# Altium integrated library TI_Logic_Specialty_Logic.IntLib: 2504 symbols (part 18 of 81)
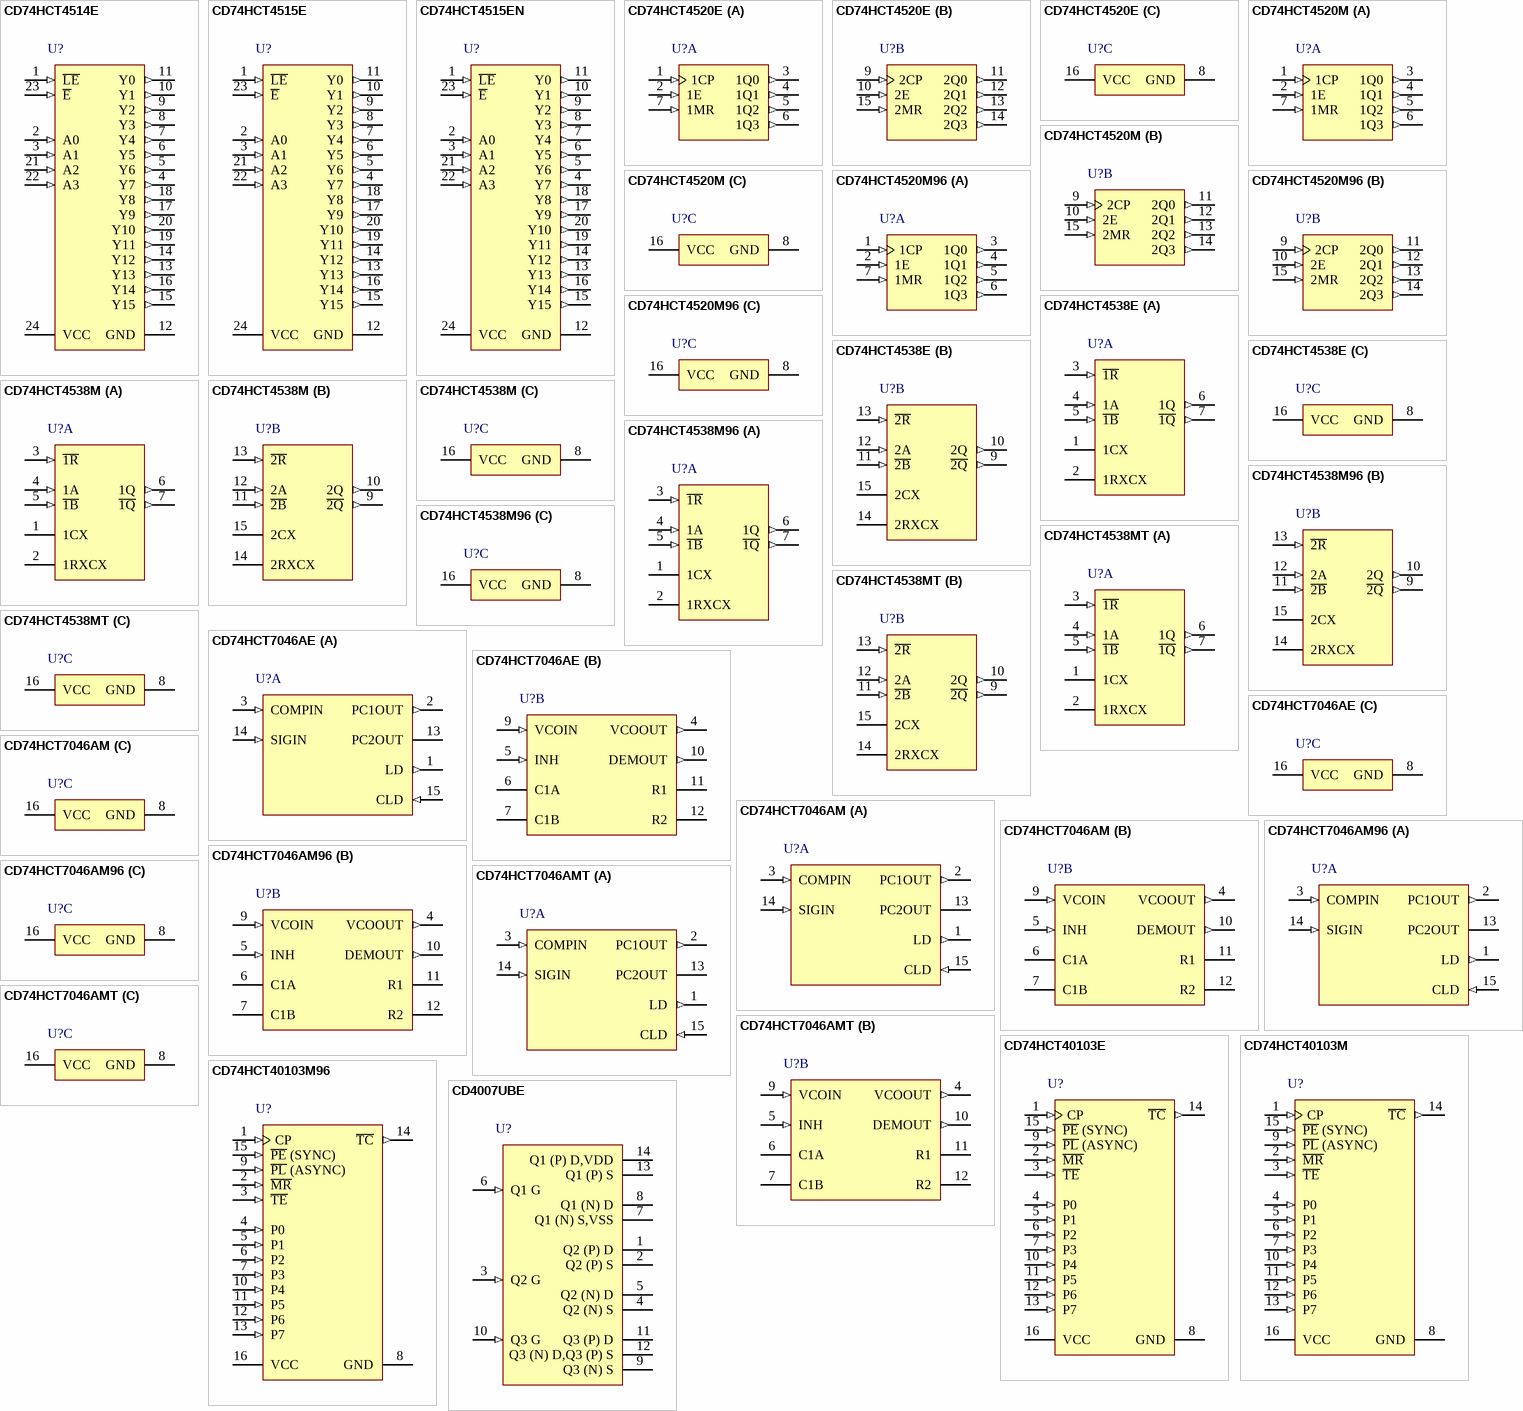
[diagram p121: symbols CD74HCT4514E to CD4007UBE]

## CD74HCT4538M96
designator U?
High Speed CMOS Logic Dual Retriggerable Precision Monostable Multivibrators, D0016A, LARGE T&R; Generic Part Number: CD74HCT4538; Manufacturer: Texas Instruments; PartNumber: CD74HCT4538M96; VCC(Min)(V): 4.5; VCC(Max)(V): 5.5; ICC @ Nom Voltage(Max)(mA): 0.08; Input Type: TTL; Bits(#): 2; F @ Nom Voltage(Max)(Mhz): 25; Rating: Catalog; Technology Family: HCT; Voltage(Nom)(V): 5; Schmitt Trigger: No; Output Drive (IOL/IOH)(Max)(mA): 4/-4; tpd @ Nom Voltage(Max)(ns): 69; DatasheetVersion: SCHS123E; PackageReference: D0016A; Supplier 1: Mouser; Supplier Part Number 1: 595-CD74HCT4538M96; Supplier 2: Digi-Key; Supplier Part Number 2: 296-31617-2-ND; Supplier 3: Digi-Key; Supplier Part Number 3: 296-31617-1-ND; Supplier 4: Digi-Key; Supplier Part Number 4: 296-31617-6-ND; Output Type: CMOS; Operating Temperature Range(C): -55 to 125; Code_JEDEC: MS-012 variation AC; ComponentLink1Description: Manufacturer URL; ComponentLink1URL: http://www.ti.com/; ComponentLink2Description: Datasheet; ComponentLink2URL: http://www.ti.com/lit/ds/symlink/cd74hct4538.pdf; ComponentLink3Description: Package Specification; ComponentLink3URL: http://www.ti.com/lit/ml/mpds178g/mpds178g.pdf
footprint D0016A_N (SOIC, 16-Leads, Body 10x4mm, Pitch 1.27mm, IPC Medium Density)
footprint D0016A_M (SOIC, 16-Leads, Body 10x4mm, Pitch 1.27mm, IPC Low Density)
footprint D0016A_L (SOIC, 16-Leads, Body 10x4mm, Pitch 1.27mm, IPC High Density)
part A pins: 1 1CX, 2 1RXCX, 3 ~{1R} (in), 4 1A (in), 5 ~{1B} (in), 6 1Q (out), 7 ~{1Q} (out)
part B pins: 9 ~{2Q} (out), 10 2Q (out), 11 ~{2B} (in), 12 2A (in), 13 ~{2R} (in), 14 2RXCX, 15 2CX
part C pins: 8 GND (power), 16 VCC (power)

## CD74HCT4538MT
designator U?
High Speed CMOS Logic Dual Retriggerable Precision Monostable Multivibrators, D0016A, SMALL T&R; Generic Part Number: CD74HCT4538; Manufacturer: Texas Instruments; PartNumber: CD74HCT4538MT; VCC(Min)(V): 4.5; VCC(Max)(V): 5.5; ICC @ Nom Voltage(Max)(mA): 0.08; Input Type: TTL; Bits(#): 2; F @ Nom Voltage(Max)(Mhz): 25; Rating: Catalog; Technology Family: HCT; Voltage(Nom)(V): 5; Schmitt Trigger: No; Output Drive (IOL/IOH)(Max)(mA): 4/-4; tpd @ Nom Voltage(Max)(ns): 69; DatasheetVersion: SCHS123E; PackageReference: D0016A; Supplier 1: Mouser; Supplier Part Number 1: 595-CD74HCT4538MT; Supplier 2: Digi-Key; Supplier Part Number 2: 296-32083-2-ND; Supplier 3: Digi-Key; Supplier Part Number 3: 296-32083-1-ND; Supplier 4: Digi-Key; Supplier Part Number 4: 296-32083-6-ND; Output Type: CMOS; Operating Temperature Range(C): -55 to 125; Code_JEDEC: MS-012 variation AC; ComponentLink1Description: Manufacturer URL; ComponentLink1URL: http://www.ti.com/; ComponentLink2Description: Datasheet; ComponentLink2URL: http://www.ti.com/lit/ds/symlink/cd74hct4538.pdf; ComponentLink3Description: Package Specification; ComponentLink3URL: http://www.ti.com/lit/ml/mpds178g/mpds178g.pdf
footprint D0016A_N (SOIC, 16-Leads, Body 10x4mm, Pitch 1.27mm, IPC Medium Density)
footprint D0016A_M (SOIC, 16-Leads, Body 10x4mm, Pitch 1.27mm, IPC Low Density)
footprint D0016A_L (SOIC, 16-Leads, Body 10x4mm, Pitch 1.27mm, IPC High Density)
part A pins: 1 1CX, 2 1RXCX, 3 ~{1R} (in), 4 1A (in), 5 ~{1B} (in), 6 1Q (out), 7 ~{1Q} (out)
part B pins: 9 ~{2Q} (out), 10 2Q (out), 11 ~{2B} (in), 12 2A (in), 13 ~{2R} (in), 14 2RXCX, 15 2CX
part C pins: 8 GND (power), 16 VCC (power)

## CD74HCT7046AE
designator U?
High Speed CMOS Logic Phase-Locked Loop with VCO and Lock Detector, N0016A, TUBE; Generic Part Number: CD74HCT7046A; Manufacturer: Texas Instruments; PartNumber: CD74HCT7046AE; VCC(Min)(V): 4.5; VCC(Max)(V): 5.5; ICC @ Nom Voltage(Max)(mA): 0.08; Input Type: TTL; Bits(#): 1; F @ Nom Voltage(Max)(Mhz): 25; Rating: Catalog; Technology Family: HCT; Voltage(Nom)(V): 5; Schmitt Trigger: No; Output Drive (IOL/IOH)(Max)(mA): 4/-4; tpd @ Nom Voltage(Max)(ns): 56; DatasheetVersion: SCHS218C; PackageReference: N0016A; Supplier 1: Mouser; Supplier Part Number 1: 595-CD74HCT7046AE; Supplier 2: Digi-Key; Supplier Part Number 2: 296-33165-5-ND; Output Type: CMOS; Operating Temperature Range(C): -55 to 125; ComponentLink1Description: Manufacturer URL; ComponentLink1URL: http://www.ti.com/; ComponentLink2Description: Datasheet; ComponentLink2URL: http://www.ti.com/lit/ds/symlink/cd74hct7046a.pdf
footprint N0016A (DIP, 16-Leads, Body 19.7x6.6mm, Pitch 2.54mm)
part A pins: 1 LD (out) "Lock Detector Output (Active High)", 2 PC1OUT (out) "Phase Comparator 1 Output", 3 COMPIN (in) "Comparator Input", 13 PC2OUT (hiz) "Phase Comparator 2 Output", 14 SIGIN (in) "Signal Input", 15 CLD (in) "Lock Detector Capacitor Input"
part B pins: 4 VCOOUT (out) "VCO Output", 5 INH (in) "Inhibit Input", 6 C1A "Capacitor C1 Connection A", 7 C1B "Capacitor C1 Connection B", 9 VCOIN (in) "VCO Input", 10 DEMOUT (out) "Demodulator Output", 11 R1 "Resistor R1 Connection", 12 R2 "Resistor R2 Connection"
part C pins: 8 GND (power) "Ground (0V)", 16 VCC (power) "Positive Supply Voltage"

## CD74HCT7046AM
designator U?
High Speed CMOS Logic Phase-Locked Loop with VCO and Lock Detector, D0016A, TUBE; Generic Part Number: CD74HCT7046A; Manufacturer: Texas Instruments; PartNumber: CD74HCT7046AM; VCC(Min)(V): 4.5; VCC(Max)(V): 5.5; ICC @ Nom Voltage(Max)(mA): 0.08; Input Type: TTL; Bits(#): 1; F @ Nom Voltage(Max)(Mhz): 25; Rating: Catalog; Technology Family: HCT; Voltage(Nom)(V): 5; Schmitt Trigger: No; Output Drive (IOL/IOH)(Max)(mA): 4/-4; tpd @ Nom Voltage(Max)(ns): 56; DatasheetVersion: SCHS218C; PackageReference: D0016A; Supplier 1: Mouser; Supplier Part Number 1: 595-CD74HCT7046AM; Supplier 2: Digi-Key; Supplier Part Number 2: 296-9296-5-ND; Output Type: CMOS; Operating Temperature Range(C): -55 to 125; ComponentLink1Description: Manufacturer URL; ComponentLink1URL: http://www.ti.com/; ComponentLink2Description: Datasheet; ComponentLink2URL: http://www.ti.com/lit/ds/symlink/cd74hct7046a.pdf
footprint D0016A_N (SOIC, 16-Leads, Body 10x4mm, Pitch 1.27mm, IPC Medium Density)
footprint D0016A_M (SOIC, 16-Leads, Body 10x4mm, Pitch 1.27mm, IPC Low Density)
footprint D0016A_L (SOIC, 16-Leads, Body 10x4mm, Pitch 1.27mm, IPC High Density)
part A pins: 1 LD (out) "Lock Detector Output (Active High)", 2 PC1OUT (out) "Phase Comparator 1 Output", 3 COMPIN (in) "Comparator Input", 13 PC2OUT (hiz) "Phase Comparator 2 Output", 14 SIGIN (in) "Signal Input", 15 CLD (in) "Lock Detector Capacitor Input"
part B pins: 4 VCOOUT (out) "VCO Output", 5 INH (in) "Inhibit Input", 6 C1A "Capacitor C1 Connection A", 7 C1B "Capacitor C1 Connection B", 9 VCOIN (in) "VCO Input", 10 DEMOUT (out) "Demodulator Output", 11 R1 "Resistor R1 Connection", 12 R2 "Resistor R2 Connection"
part C pins: 8 GND (power) "Ground (0V)", 16 VCC (power) "Positive Supply Voltage"

## CD74HCT7046AM96
designator U?
High Speed CMOS Logic Phase-Locked Loop with VCO and Lock Detector, D0016A, LARGE T&R; Generic Part Number: CD74HCT7046A; Manufacturer: Texas Instruments; PartNumber: CD74HCT7046AM96; VCC(Min)(V): 4.5; VCC(Max)(V): 5.5; ICC @ Nom Voltage(Max)(mA): 0.08; Input Type: TTL; Bits(#): 1; F @ Nom Voltage(Max)(Mhz): 25; Rating: Catalog; Technology Family: HCT; Voltage(Nom)(V): 5; Schmitt Trigger: No; Output Drive (IOL/IOH)(Max)(mA): 4/-4; tpd @ Nom Voltage(Max)(ns): 56; DatasheetVersion: SCHS218C; PackageReference: D0016A; Supplier 1: Mouser; Supplier Part Number 1: 595-CD74HCT7046AM96; Supplier 2: Digi-Key; Supplier Part Number 2: 296-31619-2-ND; Supplier 3: Digi-Key; Supplier Part Number 3: 296-31619-1-ND; Supplier 4: Digi-Key; Supplier Part Number 4: 296-31619-6-ND; Output Type: CMOS; Operating Temperature Range(C): -55 to 125; ComponentLink1Description: Manufacturer URL; ComponentLink1URL: http://www.ti.com/; ComponentLink2Description: Datasheet; ComponentLink2URL: http://www.ti.com/lit/ds/symlink/cd74hct7046a.pdf
footprint D0016A_N (SOIC, 16-Leads, Body 10x4mm, Pitch 1.27mm, IPC Medium Density)
footprint D0016A_M (SOIC, 16-Leads, Body 10x4mm, Pitch 1.27mm, IPC Low Density)
footprint D0016A_L (SOIC, 16-Leads, Body 10x4mm, Pitch 1.27mm, IPC High Density)
part A pins: 1 LD (out) "Lock Detector Output (Active High)", 2 PC1OUT (out) "Phase Comparator 1 Output", 3 COMPIN (in) "Comparator Input", 13 PC2OUT (hiz) "Phase Comparator 2 Output", 14 SIGIN (in) "Signal Input", 15 CLD (in) "Lock Detector Capacitor Input"
part B pins: 4 VCOOUT (out) "VCO Output", 5 INH (in) "Inhibit Input", 6 C1A "Capacitor C1 Connection A", 7 C1B "Capacitor C1 Connection B", 9 VCOIN (in) "VCO Input", 10 DEMOUT (out) "Demodulator Output", 11 R1 "Resistor R1 Connection", 12 R2 "Resistor R2 Connection"
part C pins: 8 GND (power) "Ground (0V)", 16 VCC (power) "Positive Supply Voltage"

## CD74HCT7046AMT
designator U?
High Speed CMOS Logic Phase-Locked Loop with VCO and Lock Detector, D0016A, SMALL T&R; Generic Part Number: CD74HCT7046A; Manufacturer: Texas Instruments; PartNumber: CD74HCT7046AMT; VCC(Min)(V): 4.5; VCC(Max)(V): 5.5; ICC @ Nom Voltage(Max)(mA): 0.08; Input Type: TTL; Bits(#): 1; F @ Nom Voltage(Max)(Mhz): 25; Rating: Catalog; Technology Family: HCT; Voltage(Nom)(V): 5; Schmitt Trigger: No; Output Drive (IOL/IOH)(Max)(mA): 4/-4; tpd @ Nom Voltage(Max)(ns): 56; DatasheetVersion: SCHS218C; PackageReference: D0016A; Supplier 1: Mouser; Supplier Part Number 1: 595-CD74HCT7046AMT; Supplier 2: Digi-Key; Supplier Part Number 2: CD74HCT7046AMT-ND; Output Type: CMOS; Operating Temperature Range(C): -55 to 125; ComponentLink1Description: Manufacturer URL; ComponentLink1URL: http://www.ti.com/; ComponentLink2Description: Datasheet; ComponentLink2URL: http://www.ti.com/lit/ds/symlink/cd74hct7046a.pdf
footprint D0016A_N (SOIC, 16-Leads, Body 10x4mm, Pitch 1.27mm, IPC Medium Density)
footprint D0016A_M (SOIC, 16-Leads, Body 10x4mm, Pitch 1.27mm, IPC Low Density)
footprint D0016A_L (SOIC, 16-Leads, Body 10x4mm, Pitch 1.27mm, IPC High Density)
part A pins: 1 LD (out) "Lock Detector Output (Active High)", 2 PC1OUT (out) "Phase Comparator 1 Output", 3 COMPIN (in) "Comparator Input", 13 PC2OUT (hiz) "Phase Comparator 2 Output", 14 SIGIN (in) "Signal Input", 15 CLD (in) "Lock Detector Capacitor Input"
part B pins: 4 VCOOUT (out) "VCO Output", 5 INH (in) "Inhibit Input", 6 C1A "Capacitor C1 Connection A", 7 C1B "Capacitor C1 Connection B", 9 VCOIN (in) "VCO Input", 10 DEMOUT (out) "Demodulator Output", 11 R1 "Resistor R1 Connection", 12 R2 "Resistor R2 Connection"
part C pins: 8 GND (power) "Ground (0V)", 16 VCC (power) "Positive Supply Voltage"

## CD74HCT40103E
designator U?
High Speed CMOS Logic 8-Stage Synchronous Down Counters, N0016A, TUBE; Generic Part Number: CD74HCT40103; Manufacturer: Texas Instruments; PartNumber: CD74HCT40103E; VCC(Min)(V): 4.5; VCC(Max)(V): 5.5; Inputs: 1; ICC @ Nom Voltage(Max)(mA): 0.08; Input Type: TTL; Bits(#): 8; F @ Nom Voltage(Max)(Mhz): 25; Rating: Catalog; Technology Family: HCT; Voltage(Nom)(V): 5; Schmitt Trigger: No; Output Drive (IOL/IOH)(Max)(mA): 4/-4; tpd @ Nom Voltage(Max)(ns): 85; DatasheetVersion: SCHS221D; PackageReference: N0016A; Supplier 1: Mouser; Supplier Part Number 1: 595-CD74HCT40103E; Supplier 2: Digi-Key; Supplier Part Number 2: 296-2159-5-ND; Output Type: CMOS; Function: Counter; Operating Temperature Range(C): -55 to 125; Type: Binary; Code_JEDEC: MS-001; ComponentLink1Description: Manufacturer URL; ComponentLink1URL: http://www.ti.com/; ComponentLink2Description: Datasheet; ComponentLink2URL: http://www.ti.com/lit/ds/symlink/cd74hct40103.pdf; ComponentLink3Description: Package Specification; ComponentLink3URL: http://www.ti.com/lit/ml/mpdi002c/mpdi002c.pdf
footprint N0016A (DIP, 16-Leads, Body 19.7x6.6mm, Pitch 2.54mm)
pins: 1 CP (in), 2 ~{MR} (in), 3 ~{TE} (in), 4 P0 (in), 5 P1 (in), 6 P2 (in), 7 P3 (in), 8 GND (power), 9 ~{PL} (ASYNC) (in), 10 P4 (in), 11 P5 (in), 12 P6 (in), 13 P7 (in), 14 ~{TC} (out), 15 ~{PE} (SYNC) (in), 16 VCC (power)

## CD74HCT40103M
designator U?
High Speed CMOS Logic 8-Stage Synchronous Down Counters, D0016A, TUBE; Generic Part Number: CD74HCT40103; Manufacturer: Texas Instruments; PartNumber: CD74HCT40103M; VCC(Min)(V): 4.5; VCC(Max)(V): 5.5; Inputs: 1; ICC @ Nom Voltage(Max)(mA): 0.08; Input Type: TTL; Bits(#): 8; F @ Nom Voltage(Max)(Mhz): 25; Rating: Catalog; Technology Family: HCT; Voltage(Nom)(V): 5; Schmitt Trigger: No; Output Drive (IOL/IOH)(Max)(mA): 4/-4; tpd @ Nom Voltage(Max)(ns): 85; DatasheetVersion: SCHS221D; PackageReference: D0016A; Supplier 1: Mouser; Supplier Part Number 1: 595-CD74HCT40103M; Supplier 2: Digi-Key; Supplier Part Number 2: 296-9272-5-ND; Output Type: CMOS; Function: Counter; Operating Temperature Range(C): -55 to 125; Type: Binary; Code_JEDEC: MS-012 variation AC; ComponentLink1Description: Manufacturer URL; ComponentLink1URL: http://www.ti.com/; ComponentLink2Description: Datasheet; ComponentLink2URL: http://www.ti.com/lit/ds/symlink/cd74hct40103.pdf; ComponentLink3Description: Package Specification; ComponentLink3URL: http://www.ti.com/lit/ml/mpds178g/mpds178g.pdf
footprint D0016A_N (SOIC, 16-Leads, Body 10x4mm, Pitch 1.27mm, IPC Medium Density)
footprint D0016A_M (SOIC, 16-Leads, Body 10x4mm, Pitch 1.27mm, IPC Low Density)
footprint D0016A_L (SOIC, 16-Leads, Body 10x4mm, Pitch 1.27mm, IPC High Density)
pins: 1 CP (in), 2 ~{MR} (in), 3 ~{TE} (in), 4 P0 (in), 5 P1 (in), 6 P2 (in), 7 P3 (in), 8 GND (power), 9 ~{PL} (ASYNC) (in), 10 P4 (in), 11 P5 (in), 12 P6 (in), 13 P7 (in), 14 ~{TC} (out), 15 ~{PE} (SYNC) (in), 16 VCC (power)

## CD74HCT40103M96
designator U?
High Speed CMOS Logic 8-Stage Synchronous Down Counters, D0016A, LARGE T&R; Generic Part Number: CD74HCT40103; Manufacturer: Texas Instruments; PartNumber: CD74HCT40103M96; VCC(Min)(V): 4.5; VCC(Max)(V): 5.5; Inputs: 1; ICC @ Nom Voltage(Max)(mA): 0.08; Input Type: TTL; Bits(#): 8; F @ Nom Voltage(Max)(Mhz): 25; Rating: Catalog; Technology Family: HCT; Voltage(Nom)(V): 5; Schmitt Trigger: No; Output Drive (IOL/IOH)(Max)(mA): 4/-4; tpd @ Nom Voltage(Max)(ns): 85; DatasheetVersion: SCHS221D; PackageReference: D0016A; Supplier 1: Mouser; Supplier Part Number 1: 595-CD74HCT40103M96; Supplier 2: Digi-Key; Supplier Part Number 2: 296-38075-2-ND; Supplier 3: Digi-Key; Supplier Part Number 3: 296-38075-1-ND; Supplier 4: Digi-Key; Supplier Part Number 4: 296-38075-6-ND; Output Type: CMOS; Function: Counter; Operating Temperature Range(C): -55 to 125; Type: Binary; Code_JEDEC: MS-012 variation AC; ComponentLink1Description: Manufacturer URL; ComponentLink1URL: http://www.ti.com/; ComponentLink2Description: Datasheet; ComponentLink2URL: http://www.ti.com/lit/ds/symlink/cd74hct40103.pdf; ComponentLink3Description: Package Specification; ComponentLink3URL: http://www.ti.com/lit/ml/mpds178g/mpds178g.pdf
footprint D0016A_N (SOIC, 16-Leads, Body 10x4mm, Pitch 1.27mm, IPC Medium Density)
footprint D0016A_M (SOIC, 16-Leads, Body 10x4mm, Pitch 1.27mm, IPC Low Density)
footprint D0016A_L (SOIC, 16-Leads, Body 10x4mm, Pitch 1.27mm, IPC High Density)
pins: 1 CP (in), 2 ~{MR} (in), 3 ~{TE} (in), 4 P0 (in), 5 P1 (in), 6 P2 (in), 7 P3 (in), 8 GND (power), 9 ~{PL} (ASYNC) (in), 10 P4 (in), 11 P5 (in), 12 P6 (in), 13 P7 (in), 14 ~{TC} (out), 15 ~{PE} (SYNC) (in), 16 VCC (power)

## CD4007UBE
designator U?
CMOS Dual Complementary Pair Plus Inverter, N0014A, TUBE; Generic Part Number: CD4007UB; Manufacturer: Texas Instruments; PartNumber: CD4007UBE; VCC(Max)(V): 18; VCC(Min)(V): 3; ICC @ Nom Voltage(Max)(mA): 0.015; Bits(#): 2; F @ Nom Voltage(Max)(Mhz): 8; Rating: Catalog; Technology Family: CD4000; Voltage(Nom)(V): 10; Schmitt Trigger: No; Output Drive (IOL/IOH)(Max)(mA): 4/-4; tpd @ Nom Voltage(Max)(ns): 60; DatasheetVersion: SCHS018C; PackageReference: N0014A; Supplier 1: Mouser; Supplier Part Number 1: 595-CD4007UBE; Supplier 2: Digi-Key; Supplier Part Number 2: 296-3501-5-ND; Output Type: CMOS; Input Type: CMOS; Operating Temperature Range(C): -55 to 125; Code_JEDEC: MS-001; ComponentLink1Description: Manufacturer URL; ComponentLink1URL: http://www.ti.com/; ComponentLink2Description: Datasheet; ComponentLink2URL: http://www.ti.com/lit/ds/symlink/cd4007ub.pdf; ComponentLink3Description: Package Specification; ComponentLink3URL: http://www.ti.com/lit/ml/mpdi002c/mpdi002c.pdf
footprint N0014A (DIP, 14-Leads, Body 19.7x6.6mm, Pitch 2.54mm)
pins: 1 Q2 (P) D (oc), 2 Q2 (P) S (oe), 3 Q2 G (in), 4 Q2 (N) S (oe), 5 Q2 (N) D (oc), 6 Q1 G (in), 7 Q1 (N) S,VSS, 8 Q1 (N) D (oc), 9 Q3 (N) S (oe), 10 Q3 G (in), 11 Q3 (P) D (oc), 12 Q3 (N) D,Q3 (P) S, 13 Q1 (P) S (oe), 14 Q1 (P) D,VDD

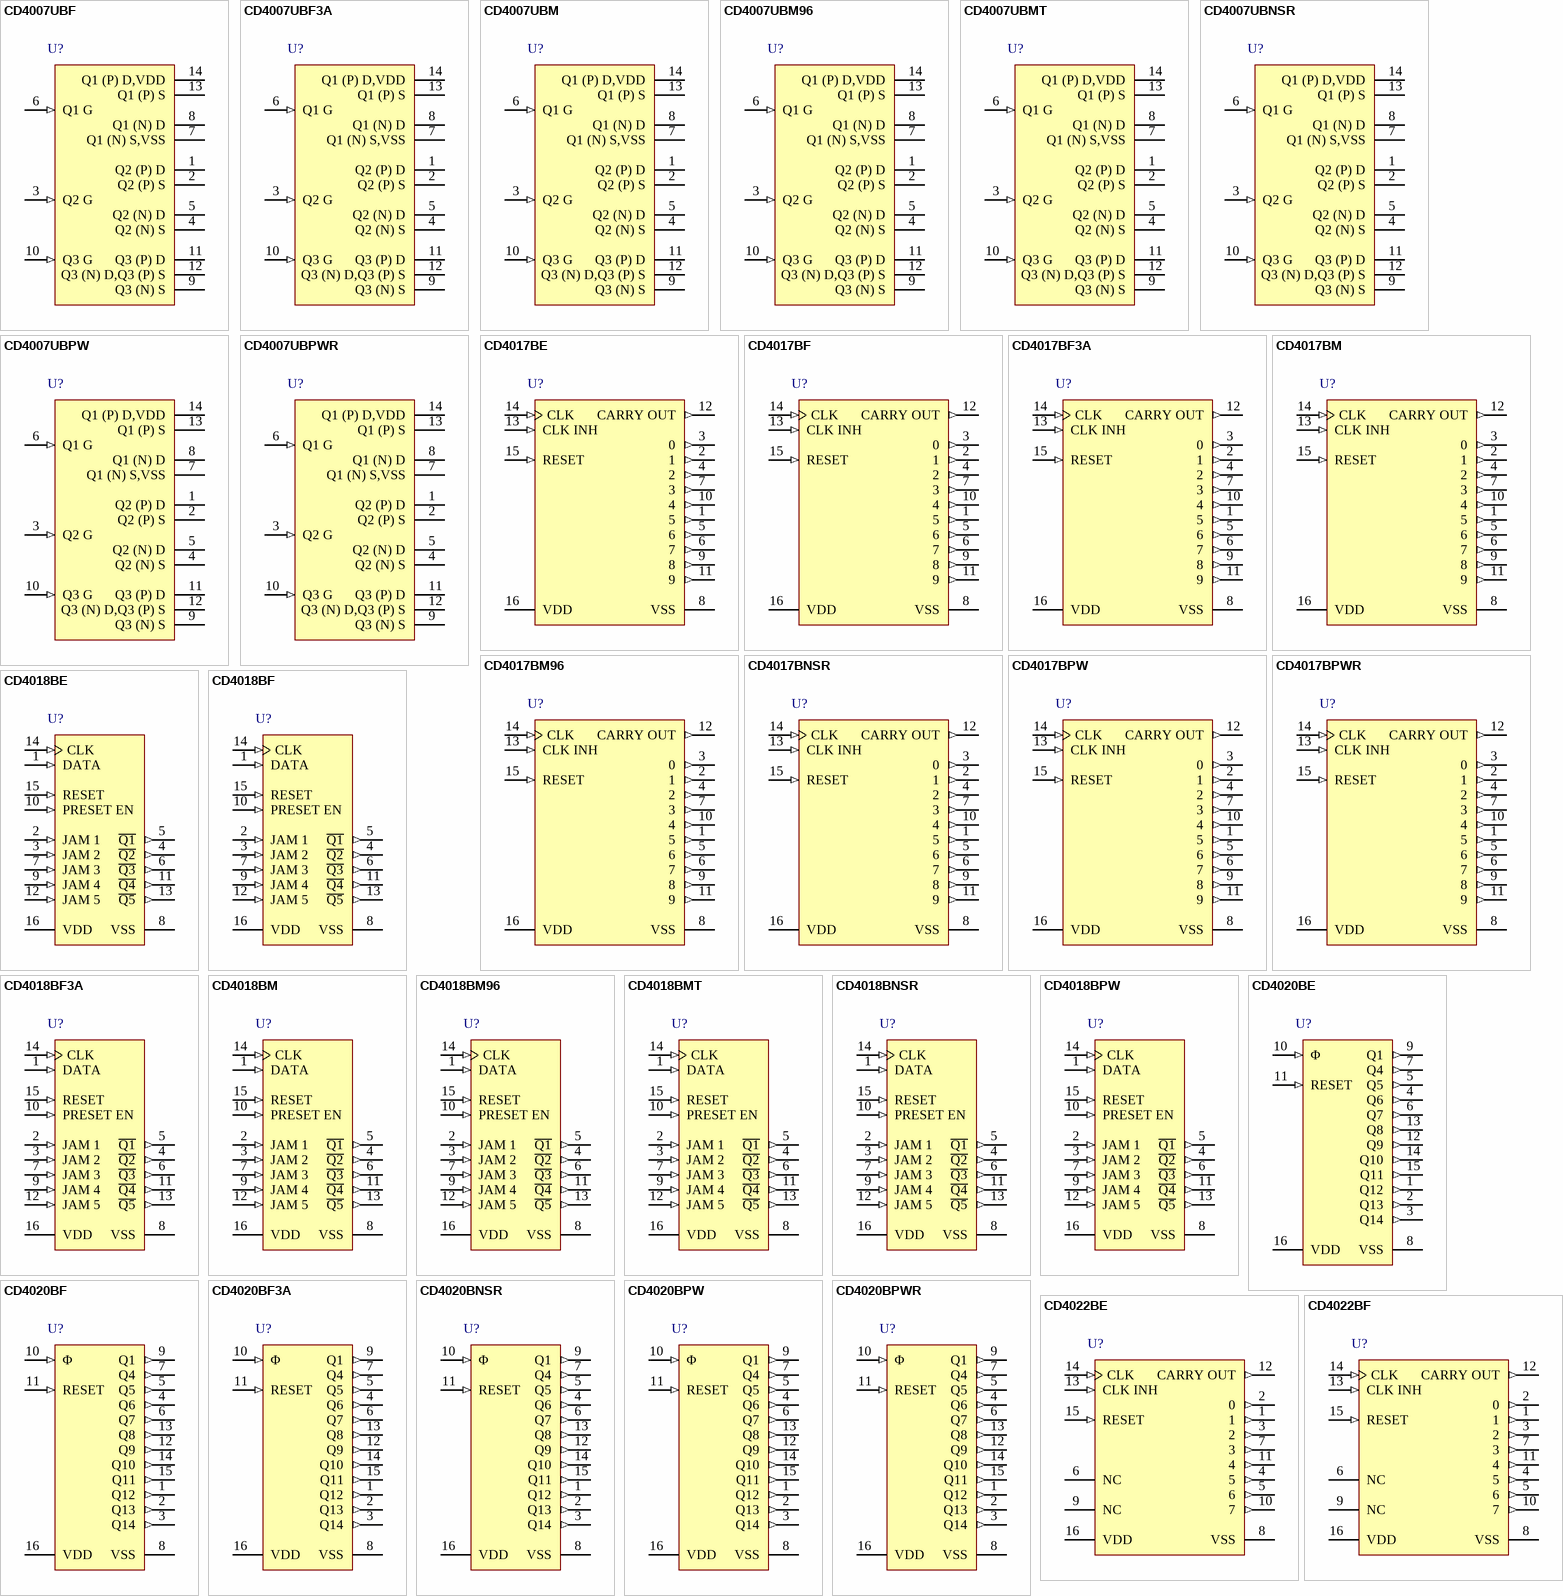
[diagram p23: symbols CD4007UBF to CD4022BF]

## CD4007UBF
designator U?
CMOS Dual Complementary Pair Plus Inverter, J0014A, TUBE; Generic Part Number: CD4007UB-MIL; Manufacturer: Texas Instruments; PartNumber: CD4007UBF; VCC(Max)(V): 18; VCC(Min)(V): 3; ICC @ Nom Voltage(Max)(mA): 0.015; Bits(#): 2; F @ Nom Voltage(Max)(Mhz): 8; Rating: Military; Technology Family: CD4000; Voltage(Nom)(V): 10; Output Drive (IOL/IOH)(Max)(mA): 4/-4; tpd @ Nom Voltage(Max)(ns): 60; DatasheetVersion: SCHS018C; PackageReference: J0014A; Output Type: CMOS; Input Type: CMOS; Operating Temperature Range(C): -55 to 125; ComponentLink1Description: Manufacturer URL; ComponentLink1URL: http://www.ti.com/; ComponentLink2Description: Datasheet; ComponentLink2URL: http://www.ti.com/lit/ds/symlink/cd4007ub-mil.pdf; ComponentLink3Description: Package Specification; ComponentLink3URL: http://www.ti.com/lit/ml/mcer002d/mcer002d.pdf
footprint J0014A (DIP, 14-Leads, Body 19.95x7.2mm, Pitch 2.54mm)
pins: 1 Q2 (P) D (oc), 2 Q2 (P) S (oe), 3 Q2 G (in), 4 Q2 (N) S (oe), 5 Q2 (N) D (oc), 6 Q1 G (in), 7 Q1 (N) S,VSS, 8 Q1 (N) D (oc), 9 Q3 (N) S (oe), 10 Q3 G (in), 11 Q3 (P) D (oc), 12 Q3 (N) D,Q3 (P) S, 13 Q1 (P) S (oe), 14 Q1 (P) D,VDD

## CD4007UBF3A
designator U?
CMOS Dual Complementary Pair Plus Inverter, J0014A, TUBE; Generic Part Number: CD4007UB-MIL; Manufacturer: Texas Instruments; PartNumber: CD4007UBF3A; VCC(Max)(V): 18; VCC(Min)(V): 3; ICC @ Nom Voltage(Max)(mA): 0.015; Bits(#): 2; F @ Nom Voltage(Max)(Mhz): 8; Rating: Military; Technology Family: CD4000; Voltage(Nom)(V): 10; Output Drive (IOL/IOH)(Max)(mA): 4/-4; tpd @ Nom Voltage(Max)(ns): 60; DatasheetVersion: SCHS018C; PackageReference: J0014A; Output Type: CMOS; Input Type: CMOS; Operating Temperature Range(C): -55 to 125; ComponentLink1Description: Manufacturer URL; ComponentLink1URL: http://www.ti.com/; ComponentLink2Description: Datasheet; ComponentLink2URL: http://www.ti.com/lit/ds/symlink/cd4007ub-mil.pdf; ComponentLink3Description: Package Specification; ComponentLink3URL: http://www.ti.com/lit/ml/mcer002d/mcer002d.pdf
footprint J0014A (DIP, 14-Leads, Body 19.95x7.2mm, Pitch 2.54mm)
pins: 1 Q2 (P) D (oc), 2 Q2 (P) S (oe), 3 Q2 G (in), 4 Q2 (N) S (oe), 5 Q2 (N) D (oc), 6 Q1 G (in), 7 Q1 (N) S,VSS, 8 Q1 (N) D (oc), 9 Q3 (N) S (oe), 10 Q3 G (in), 11 Q3 (P) D (oc), 12 Q3 (N) D,Q3 (P) S, 13 Q1 (P) S (oe), 14 Q1 (P) D,VDD

## CD4007UBM
designator U?
CMOS Dual Complementary Pair Plus Inverter, D0014A, TUBE; Generic Part Number: CD4007UB; Manufacturer: Texas Instruments; PartNumber: CD4007UBM; VCC(Max)(V): 18; VCC(Min)(V): 3; ICC @ Nom Voltage(Max)(mA): 0.015; Bits(#): 2; F @ Nom Voltage(Max)(Mhz): 8; Rating: Catalog; Technology Family: CD4000; Voltage(Nom)(V): 10; Schmitt Trigger: No; Output Drive (IOL/IOH)(Max)(mA): 4/-4; tpd @ Nom Voltage(Max)(ns): 60; DatasheetVersion: SCHS018C; PackageReference: D0014A; Supplier 1: Mouser; Supplier Part Number 1: 595-CD4007UBM; Supplier 2: Digi-Key; Supplier Part Number 2: 296-3502-5-ND; Output Type: CMOS; Input Type: CMOS; Operating Temperature Range(C): -55 to 125; Code_JEDEC: MS-012; ComponentLink1Description: Manufacturer URL; ComponentLink1URL: http://www.ti.com/; ComponentLink2Description: Datasheet; ComponentLink2URL: http://www.ti.com/lit/ds/symlink/cd4007ub.pdf; ComponentLink3Description: Package Specification; ComponentLink3URL: http://www.ti.com/lit/ml/mpds177g/mpds177g.pdf
footprint D0014A_N (SOIC, 14-Leads, Body 8.75x4mm, Pitch 1.27mm, IPC Medium Density)
footprint D0014A_M (SOIC, 14-Leads, Body 8.75x4mm, Pitch 1.27mm, IPC Low Density)
footprint D0014A_L (SOIC, 14-Leads, Body 8.75x4mm, Pitch 1.27mm, IPC High Density)
pins: 1 Q2 (P) D (oc), 2 Q2 (P) S (oe), 3 Q2 G (in), 4 Q2 (N) S (oe), 5 Q2 (N) D (oc), 6 Q1 G (in), 7 Q1 (N) S,VSS, 8 Q1 (N) D (oc), 9 Q3 (N) S (oe), 10 Q3 G (in), 11 Q3 (P) D (oc), 12 Q3 (N) D,Q3 (P) S, 13 Q1 (P) S (oe), 14 Q1 (P) D,VDD

## CD4007UBM96
designator U?
CMOS Dual Complementary Pair Plus Inverter, D0014A, LARGE T&R; Generic Part Number: CD4007UB; Manufacturer: Texas Instruments; PartNumber: CD4007UBM96; VCC(Max)(V): 18; VCC(Min)(V): 3; ICC @ Nom Voltage(Max)(mA): 0.015; Bits(#): 2; F @ Nom Voltage(Max)(Mhz): 8; Rating: Catalog; Technology Family: CD4000; Voltage(Nom)(V): 10; Schmitt Trigger: No; Output Drive (IOL/IOH)(Max)(mA): 4/-4; tpd @ Nom Voltage(Max)(ns): 60; DatasheetVersion: SCHS018C; PackageReference: D0014A; Supplier 1: Mouser; Supplier Part Number 1: 595-CD4007UBM96; Supplier 2: Digi-Key; Supplier Part Number 2: 296-28465-2-ND; Supplier 3: Digi-Key; Supplier Part Number 3: 296-28465-1-ND; Supplier 4: Digi-Key; Supplier Part Number 4: 296-28465-6-ND; Output Type: CMOS; Input Type: CMOS; Operating Temperature Range(C): -55 to 125; Code_JEDEC: MS-012; ComponentLink1Description: Manufacturer URL; ComponentLink1URL: http://www.ti.com/; ComponentLink2Description: Datasheet; ComponentLink2URL: http://www.ti.com/lit/ds/symlink/cd4007ub.pdf; ComponentLink3Description: Package Specification; ComponentLink3URL: http://www.ti.com/lit/ml/mpds177g/mpds177g.pdf
footprint D0014A_N (SOIC, 14-Leads, Body 8.75x4mm, Pitch 1.27mm, IPC Medium Density)
footprint D0014A_M (SOIC, 14-Leads, Body 8.75x4mm, Pitch 1.27mm, IPC Low Density)
footprint D0014A_L (SOIC, 14-Leads, Body 8.75x4mm, Pitch 1.27mm, IPC High Density)
pins: 1 Q2 (P) D (oc), 2 Q2 (P) S (oe), 3 Q2 G (in), 4 Q2 (N) S (oe), 5 Q2 (N) D (oc), 6 Q1 G (in), 7 Q1 (N) S,VSS, 8 Q1 (N) D (oc), 9 Q3 (N) S (oe), 10 Q3 G (in), 11 Q3 (P) D (oc), 12 Q3 (N) D,Q3 (P) S, 13 Q1 (P) S (oe), 14 Q1 (P) D,VDD

## CD4007UBMT
designator U?
CMOS Dual Complementary Pair Plus Inverter, D0014A, SMALL T&R; Generic Part Number: CD4007UB; Manufacturer: Texas Instruments; PartNumber: CD4007UBMT; VCC(Max)(V): 18; VCC(Min)(V): 3; ICC @ Nom Voltage(Max)(mA): 0.015; Bits(#): 2; F @ Nom Voltage(Max)(Mhz): 8; Rating: Catalog; Technology Family: CD4000; Voltage(Nom)(V): 10; Schmitt Trigger: No; Output Drive (IOL/IOH)(Max)(mA): 4/-4; tpd @ Nom Voltage(Max)(ns): 60; DatasheetVersion: SCHS018C; PackageReference: D0014A; Supplier 1: Mouser; Supplier Part Number 1: 595-CD4007UBMT; Supplier 2: Digi-Key; Supplier Part Number 2: 296-31478-2-ND; Supplier 3: Digi-Key; Supplier Part Number 3: 296-31478-1-ND; Supplier 4: Digi-Key; Supplier Part Number 4: 296-31478-6-ND; Output Type: CMOS; Input Type: CMOS; Operating Temperature Range(C): -55 to 125; Code_JEDEC: MS-012; ComponentLink1Description: Manufacturer URL; ComponentLink1URL: http://www.ti.com/; ComponentLink2Description: Datasheet; ComponentLink2URL: http://www.ti.com/lit/ds/symlink/cd4007ub.pdf; ComponentLink3Description: Package Specification; ComponentLink3URL: http://www.ti.com/lit/ml/mpds177g/mpds177g.pdf
footprint D0014A_N (SOIC, 14-Leads, Body 8.75x4mm, Pitch 1.27mm, IPC Medium Density)
footprint D0014A_M (SOIC, 14-Leads, Body 8.75x4mm, Pitch 1.27mm, IPC Low Density)
footprint D0014A_L (SOIC, 14-Leads, Body 8.75x4mm, Pitch 1.27mm, IPC High Density)
pins: 1 Q2 (P) D (oc), 2 Q2 (P) S (oe), 3 Q2 G (in), 4 Q2 (N) S (oe), 5 Q2 (N) D (oc), 6 Q1 G (in), 7 Q1 (N) S,VSS, 8 Q1 (N) D (oc), 9 Q3 (N) S (oe), 10 Q3 G (in), 11 Q3 (P) D (oc), 12 Q3 (N) D,Q3 (P) S, 13 Q1 (P) S (oe), 14 Q1 (P) D,VDD

## CD4007UBNSR
designator U?
CMOS Dual Complementary Pair Plus Inverter, NS0014A, LARGE T&R; Generic Part Number: CD4007UB; Manufacturer: Texas Instruments; PartNumber: CD4007UBNSR; VCC(Max)(V): 18; VCC(Min)(V): 3; ICC @ Nom Voltage(Max)(mA): 0.015; Bits(#): 2; F @ Nom Voltage(Max)(Mhz): 8; Rating: Catalog; Technology Family: CD4000; Voltage(Nom)(V): 10; Schmitt Trigger: No; Output Drive (IOL/IOH)(Max)(mA): 4/-4; tpd @ Nom Voltage(Max)(ns): 60; DatasheetVersion: SCHS018C; PackageReference: NS0014A; Supplier 1: Mouser; Supplier Part Number 1: 595-CD4007UBNSR; Supplier 2: Digi-Key; Supplier Part Number 2: 296-31479-2-ND; Supplier 3: Digi-Key; Supplier Part Number 3: 296-31479-1-ND; Supplier 4: Digi-Key; Supplier Part Number 4: 296-31479-6-ND; Output Type: CMOS; Input Type: CMOS; Operating Temperature Range(C): -55 to 125; ComponentLink1Description: Manufacturer URL; ComponentLink1URL: http://www.ti.com/; ComponentLink2Description: Datasheet; ComponentLink2URL: http://www.ti.com/lit/ds/symlink/cd4007ub.pdf; ComponentLink3Description: Package Specification; ComponentLink3URL: http://www.ti.com/lit/ml/msop002a/msop002a.pdf
footprint NS0014A_N (SOIC,14-Leads,Body 10.5x5.6mm,Pitch 1.27mm,IPC Medium Density)
footprint NS0014A_M (SOIC,14-Leads,Body 10.5x5.6mm,Pitch 1.27mm,IPC Low Density)
footprint NS0014A_L (SOIC,14-Leads,Body 10.5x5.6mm,Pitch 0.4mm,IPC High Density)
pins: 1 Q2 (P) D (oc), 2 Q2 (P) S (oe), 3 Q2 G (in), 4 Q2 (N) S (oe), 5 Q2 (N) D (oc), 6 Q1 G (in), 7 Q1 (N) S,VSS, 8 Q1 (N) D (oc), 9 Q3 (N) S (oe), 10 Q3 G (in), 11 Q3 (P) D (oc), 12 Q3 (N) D,Q3 (P) S, 13 Q1 (P) S (oe), 14 Q1 (P) D,VDD

## CD4007UBPW
designator U?
CMOS Dual Complementary Pair Plus Inverter, PW0014A, TUBE; Generic Part Number: CD4007UB; Manufacturer: Texas Instruments; PartNumber: CD4007UBPW; VCC(Max)(V): 18; VCC(Min)(V): 3; ICC @ Nom Voltage(Max)(mA): 0.015; Bits(#): 2; F @ Nom Voltage(Max)(Mhz): 8; Rating: Catalog; Technology Family: CD4000; Voltage(Nom)(V): 10; Schmitt Trigger: No; Output Drive (IOL/IOH)(Max)(mA): 4/-4; tpd @ Nom Voltage(Max)(ns): 60; DatasheetVersion: SCHS018C; PackageReference: PW0014A; Supplier 1: Mouser; Supplier Part Number 1: 595-CD4007UBPW; Supplier 2: Digi-Key; Supplier Part Number 2: CD4007UBPW-ND; Output Type: CMOS; Input Type: CMOS; Operating Temperature Range(C): -55 to 125; Code_JEDEC: MO-153; ComponentLink1Description: Manufacturer URL; ComponentLink1URL: http://www.ti.com/; ComponentLink2Description: Datasheet; ComponentLink2URL: http://www.ti.com/lit/ds/symlink/cd4007ub.pdf; ComponentLink3Description: Package Specification; ComponentLink3URL: http://www.ti.com/lit/ml/mpds360/mpds360.pdf
footprint PW0014A_N (SOP, 14-Leads, Body 5.1x4.5mm, Pitch 0.65mm, IPC Medium Density)
footprint PW0014A_M (SOP, 14-Leads, Body 5.1x4.5mm, Pitch 0.65mm, IPC Low Density)
footprint PW0014A_L (SOP, 14-Leads, Body 5.1x4.5mm, Pitch 0.65mm, IPC High Density)
pins: 1 Q2 (P) D (oc), 2 Q2 (P) S (oe), 3 Q2 G (in), 4 Q2 (N) S (oe), 5 Q2 (N) D (oc), 6 Q1 G (in), 7 Q1 (N) S,VSS, 8 Q1 (N) D (oc), 9 Q3 (N) S (oe), 10 Q3 G (in), 11 Q3 (P) D (oc), 12 Q3 (N) D,Q3 (P) S, 13 Q1 (P) S (oe), 14 Q1 (P) D,VDD

## CD4007UBPWR
designator U?
CMOS Dual Complementary Pair Plus Inverter, PW0014A, LARGE T&R; Generic Part Number: CD4007UB; Manufacturer: Texas Instruments; PartNumber: CD4007UBPWR; VCC(Max)(V): 18; VCC(Min)(V): 3; ICC @ Nom Voltage(Max)(mA): 0.015; Bits(#): 2; F @ Nom Voltage(Max)(Mhz): 8; Rating: Catalog; Technology Family: CD4000; Voltage(Nom)(V): 10; Schmitt Trigger: No; Output Drive (IOL/IOH)(Max)(mA): 4/-4; tpd @ Nom Voltage(Max)(ns): 60; DatasheetVersion: SCHS018C; PackageReference: PW0014A; Supplier 1: Mouser; Supplier Part Number 1: 595-CD4007UBPWR; Supplier 2: Digi-Key; Supplier Part Number 2: 296-28614-2-ND; Supplier 3: Digi-Key; Supplier Part Number 3: 296-28614-1-ND; Supplier 4: Digi-Key; Supplier Part Number 4: 296-28614-6-ND; Output Type: CMOS; Input Type: CMOS; Operating Temperature Range(C): -55 to 125; Code_JEDEC: MO-153; ComponentLink1Description: Manufacturer URL; ComponentLink1URL: http://www.ti.com/; ComponentLink2Description: Datasheet; ComponentLink2URL: http://www.ti.com/lit/ds/symlink/cd4007ub.pdf; ComponentLink3Description: Package Specification; ComponentLink3URL: http://www.ti.com/lit/ml/mpds360/mpds360.pdf
footprint PW0014A_N (SOP, 14-Leads, Body 5.1x4.5mm, Pitch 0.65mm, IPC Medium Density)
footprint PW0014A_M (SOP, 14-Leads, Body 5.1x4.5mm, Pitch 0.65mm, IPC Low Density)
footprint PW0014A_L (SOP, 14-Leads, Body 5.1x4.5mm, Pitch 0.65mm, IPC High Density)
pins: 1 Q2 (P) D (oc), 2 Q2 (P) S (oe), 3 Q2 G (in), 4 Q2 (N) S (oe), 5 Q2 (N) D (oc), 6 Q1 G (in), 7 Q1 (N) S,VSS, 8 Q1 (N) D (oc), 9 Q3 (N) S (oe), 10 Q3 G (in), 11 Q3 (P) D (oc), 12 Q3 (N) D,Q3 (P) S, 13 Q1 (P) S (oe), 14 Q1 (P) D,VDD

## CD4017BE
designator U?
CMOS Decade Counter with 10 Decoded Outputs, N0016A, TUBE; Generic Part Number: CD4017B; Manufacturer: Texas Instruments; PartNumber: CD4017BE; VCC(Max)(V): 18; VCC(Min)(V): 3; Inputs: 1; ICC @ Nom Voltage(Max)(mA): 0.03; Bits(#): 10; F @ Nom Voltage(Max)(Mhz): 8; Rating: Military; Technology Family: CD4000; Schmitt Trigger: No; Output Drive (IOL/IOH)(Max)(mA): 1.5/-1.5; tpd @ Nom Voltage(Max)(ns): 270; DatasheetVersion: SCHS027C; PackageReference: N0016A; Supplier 1: Mouser; Supplier Part Number 1: 595-CD4017BE; Supplier 2: Digi-Key; Supplier Part Number 2: 296-2037-5-ND; Output Type: CMOS; Function: Counter; Input Type: CMOS; Operating Temperature Range(C): -55 to 125; Type: Decade; Voltage(Nom)(V): 10; Code_JEDEC: MS-001; ComponentLink1Description: Manufacturer URL; ComponentLink1URL: http://www.ti.com/; ComponentLink2Description: Datasheet; ComponentLink2URL: http://www.ti.com/lit/ds/symlink/cd4017b.pdf; ComponentLink3Description: Package Specification; ComponentLink3URL: http://www.ti.com/lit/ml/mpdi002c/mpdi002c.pdf
footprint N0016A (DIP, 16-Leads, Body 19.7x6.6mm, Pitch 2.54mm)
pins: 1 5 (out), 2 1 (out), 3 0 (out), 4 2 (out), 5 6 (out), 6 7 (out), 7 3 (out), 8 VSS (power), 9 8 (out), 10 4 (out), 11 9 (out), 12 CARRY OUT (out), 13 CLK INH (in), 14 CLK (in), 15 RESET (in), 16 VDD (power)

## CD4017BF
designator U?
CMOS Decade Counter with 10 Decoded Outputs, J0016A, TUBE; Generic Part Number: CD4017B-MIL; Manufacturer: Texas Instruments; PartNumber: CD4017BF; VCC(Max)(V): 18; VCC(Min)(V): 3; Inputs: 1; ICC @ Nom Voltage(Max)(mA): 0.03; Bits(#): 10; F @ Nom Voltage(Max)(Mhz): 8; Rating: Military; Technology Family: CD4000; Schmitt Trigger: No; Output Drive (IOL/IOH)(Max)(mA): 1.5/-1.5; tpd @ Nom Voltage(Max)(ns): 270; DatasheetVersion: SCHS027C; PackageReference: J0016A; Output Type: CMOS; Function: Counter; Input Type: CMOS; Operating Temperature Range(C): -55 to 125; Type: Decade; Voltage(Nom)(V): 10; ComponentLink1Description: Manufacturer URL; ComponentLink1URL: http://www.ti.com/; ComponentLink2Description: Datasheet; ComponentLink2URL: http://www.ti.com/lit/ds/symlink/cd4017b-mil.pdf; ComponentLink3Description: Package Specification; ComponentLink3URL: http://www.ti.com/lit/ml/mcer002d/mcer002d.pdf
footprint J0016A (DIP, 16-Leads, Body 21.35x7.2mm, Pitch 2.54mm)
pins: 1 5 (out), 2 1 (out), 3 0 (out), 4 2 (out), 5 6 (out), 6 7 (out), 7 3 (out), 8 VSS (power), 9 8 (out), 10 4 (out), 11 9 (out), 12 CARRY OUT (out), 13 CLK INH (in), 14 CLK (in), 15 RESET (in), 16 VDD (power)

## CD4017BF3A
designator U?
CMOS Decade Counter with 10 Decoded Outputs, J0016A, TUBE; Generic Part Number: CD4017B-MIL; Manufacturer: Texas Instruments; PartNumber: CD4017BF3A; VCC(Max)(V): 18; VCC(Min)(V): 3; Inputs: 1; ICC @ Nom Voltage(Max)(mA): 0.03; Bits(#): 10; F @ Nom Voltage(Max)(Mhz): 8; Rating: Military; Technology Family: CD4000; Schmitt Trigger: No; Output Drive (IOL/IOH)(Max)(mA): 1.5/-1.5; tpd @ Nom Voltage(Max)(ns): 270; DatasheetVersion: SCHS027C; PackageReference: J0016A; Output Type: CMOS; Function: Counter; Input Type: CMOS; Operating Temperature Range(C): -55 to 125; Type: Decade; Voltage(Nom)(V): 10; ComponentLink1Description: Manufacturer URL; ComponentLink1URL: http://www.ti.com/; ComponentLink2Description: Datasheet; ComponentLink2URL: http://www.ti.com/lit/ds/symlink/cd4017b-mil.pdf; ComponentLink3Description: Package Specification; ComponentLink3URL: http://www.ti.com/lit/ml/mcer002d/mcer002d.pdf
footprint J0016A (DIP, 16-Leads, Body 21.35x7.2mm, Pitch 2.54mm)
pins: 1 5 (out), 2 1 (out), 3 0 (out), 4 2 (out), 5 6 (out), 6 7 (out), 7 3 (out), 8 VSS (power), 9 8 (out), 10 4 (out), 11 9 (out), 12 CARRY OUT (out), 13 CLK INH (in), 14 CLK (in), 15 RESET (in), 16 VDD (power)

## CD4017BM
designator U?
CMOS Decade Counter with 10 Decoded Outputs, D0016A, TUBE; Generic Part Number: CD4017B; Manufacturer: Texas Instruments; PartNumber: CD4017BM; VCC(Max)(V): 18; VCC(Min)(V): 3; Inputs: 1; ICC @ Nom Voltage(Max)(mA): 0.03; Bits(#): 10; F @ Nom Voltage(Max)(Mhz): 8; Rating: Military; Technology Family: CD4000; Schmitt Trigger: No; Output Drive (IOL/IOH)(Max)(mA): 1.5/-1.5; tpd @ Nom Voltage(Max)(ns): 270; DatasheetVersion: SCHS027C; PackageReference: D0016A; Supplier 1: Mouser; Supplier Part Number 1: 595-CD4017BM; Supplier 2: Digi-Key; Supplier Part Number 2: 296-32868-5-ND; Output Type: CMOS; Function: Counter; Input Type: CMOS; Operating Temperature Range(C): -55 to 125; Type: Decade; Voltage(Nom)(V): 10; Code_JEDEC: MS-012 variation AC; ComponentLink1Description: Manufacturer URL; ComponentLink1URL: http://www.ti.com/; ComponentLink2Description: Datasheet; ComponentLink2URL: http://www.ti.com/lit/ds/symlink/cd4017b.pdf; ComponentLink3Description: Package Specification; ComponentLink3URL: http://www.ti.com/lit/ml/mpds178g/mpds178g.pdf
footprint D0016A_N (SOIC, 16-Leads, Body 10x4mm, Pitch 1.27mm, IPC Medium Density)
footprint D0016A_M (SOIC, 16-Leads, Body 10x4mm, Pitch 1.27mm, IPC Low Density)
footprint D0016A_L (SOIC, 16-Leads, Body 10x4mm, Pitch 1.27mm, IPC High Density)
pins: 1 5 (out), 2 1 (out), 3 0 (out), 4 2 (out), 5 6 (out), 6 7 (out), 7 3 (out), 8 VSS (power), 9 8 (out), 10 4 (out), 11 9 (out), 12 CARRY OUT (out), 13 CLK INH (in), 14 CLK (in), 15 RESET (in), 16 VDD (power)

## CD4017BM96
designator U?
CMOS Decade Counter with 10 Decoded Outputs, D0016A, LARGE T&R; Generic Part Number: CD4017B; Manufacturer: Texas Instruments; PartNumber: CD4017BM96; VCC(Max)(V): 18; VCC(Min)(V): 3; Inputs: 1; ICC @ Nom Voltage(Max)(mA): 0.03; Bits(#): 10; F @ Nom Voltage(Max)(Mhz): 8; Rating: Military; Technology Family: CD4000; Schmitt Trigger: No; Output Drive (IOL/IOH)(Max)(mA): 1.5/-1.5; tpd @ Nom Voltage(Max)(ns): 270; DatasheetVersion: SCHS027C; PackageReference: D0016A; Supplier 1: Mouser; Supplier Part Number 1: 595-CD4017BM96; Supplier 2: Digi-Key; Supplier Part Number 2: 296-25940-2-ND; Supplier 3: Digi-Key; Supplier Part Number 3: 296-25940-1-ND; Supplier 4: Digi-Key; Supplier Part Number 4: 296-25940-6-ND; Output Type: CMOS; Function: Counter; Input Type: CMOS; Operating Temperature Range(C): -55 to 125; Type: Decade; Voltage(Nom)(V): 10; Code_JEDEC: MS-012 variation AC; ComponentLink1Description: Manufacturer URL; ComponentLink1URL: http://www.ti.com/; ComponentLink2Description: Datasheet; ComponentLink2URL: http://www.ti.com/lit/ds/symlink/cd4017b.pdf; ComponentLink3Description: Package Specification; ComponentLink3URL: http://www.ti.com/lit/ml/mpds178g/mpds178g.pdf
footprint D0016A_N (SOIC, 16-Leads, Body 10x4mm, Pitch 1.27mm, IPC Medium Density)
footprint D0016A_M (SOIC, 16-Leads, Body 10x4mm, Pitch 1.27mm, IPC Low Density)
footprint D0016A_L (SOIC, 16-Leads, Body 10x4mm, Pitch 1.27mm, IPC High Density)
pins: 1 5 (out), 2 1 (out), 3 0 (out), 4 2 (out), 5 6 (out), 6 7 (out), 7 3 (out), 8 VSS (power), 9 8 (out), 10 4 (out), 11 9 (out), 12 CARRY OUT (out), 13 CLK INH (in), 14 CLK (in), 15 RESET (in), 16 VDD (power)

## CD4017BNSR
designator U?
CMOS Decade Counter with 10 Decoded Outputs, NS0016A, LARGE T&R; Generic Part Number: CD4017B; Manufacturer: Texas Instruments; PartNumber: CD4017BNSR; VCC(Max)(V): 18; VCC(Min)(V): 3; Inputs: 1; ICC @ Nom Voltage(Max)(mA): 0.03; Bits(#): 10; F @ Nom Voltage(Max)(Mhz): 8; Rating: Military; Technology Family: CD4000; Schmitt Trigger: No; Output Drive (IOL/IOH)(Max)(mA): 1.5/-1.5; tpd @ Nom Voltage(Max)(ns): 270; DatasheetVersion: SCHS027C; PackageReference: NS0016A; Supplier 1: Mouser; Supplier Part Number 1: 595-CD4017BNSR; Supplier 2: Digi-Key; Supplier Part Number 2: 296-14094-2-ND; Supplier 3: Digi-Key; Supplier Part Number 3: 296-14094-1-ND; Supplier 4: Digi-Key; Supplier Part Number 4: 296-14094-6-ND; Output Type: CMOS; Function: Counter; Input Type: CMOS; Operating Temperature Range(C): -55 to 125; Type: Decade; Voltage(Nom)(V): 10; ComponentLink1Description: Manufacturer URL; ComponentLink1URL: http://www.ti.com/; ComponentLink2Description: Datasheet; ComponentLink2URL: http://www.ti.com/lit/ds/symlink/cd4017b.pdf; ComponentLink3Description: Package Specification; ComponentLink3URL: http://www.ti.com/lit/ml/msop002a/msop002a.pdf
footprint NS0016A_N (SOIC,16-Leads,Body 10.5x5.6mm,Pitch 1.27mm,IPC Medium Density)
footprint NS0016A_M (SOIC,16-Leads,Body 10.5x5.6mm,Pitch 1.27mm,IPC Low Density)
footprint NS0016A_L (SOIC,16-Leads,Body 10.5x5.6mm,Pitch 1.27mm,IPC High Density)
pins: 1 5 (out), 2 1 (out), 3 0 (out), 4 2 (out), 5 6 (out), 6 7 (out), 7 3 (out), 8 VSS (power), 9 8 (out), 10 4 (out), 11 9 (out), 12 CARRY OUT (out), 13 CLK INH (in), 14 CLK (in), 15 RESET (in), 16 VDD (power)

## CD4017BPW
designator U?
CMOS Decade Counter with 10 Decoded Outputs, PW0016A, TUBE; Generic Part Number: CD4017B; Manufacturer: Texas Instruments; PartNumber: CD4017BPW; VCC(Max)(V): 18; VCC(Min)(V): 3; Inputs: 1; ICC @ Nom Voltage(Max)(mA): 0.03; Bits(#): 10; F @ Nom Voltage(Max)(Mhz): 8; Rating: Military; Technology Family: CD4000; Schmitt Trigger: No; Output Drive (IOL/IOH)(Max)(mA): 1.5/-1.5; tpd @ Nom Voltage(Max)(ns): 270; DatasheetVersion: SCHS027C; PackageReference: PW0016A; Supplier 1: Mouser; Supplier Part Number 1: 595-CD4017BPW; Supplier 2: Digi-Key; Supplier Part Number 2: 296-32869-5-ND; Output Type: CMOS; Function: Counter; Input Type: CMOS; Operating Temperature Range(C): -55 to 125; Type: Decade; Voltage(Nom)(V): 10; Code_JEDEC: MO-153; ComponentLink1Description: Manufacturer URL; ComponentLink1URL: http://www.ti.com/; ComponentLink2Description: Datasheet; ComponentLink2URL: http://www.ti.com/lit/ds/symlink/cd4017b.pdf; ComponentLink3Description: Package Specification; ComponentLink3URL: http://www.ti.com/lit/ml/mpds361/mpds361.pdf
footprint PW0016A_N (SOP, 16-Leads, Body 5.1x4.5mm, Pitch 0.65mm, IPC Medium Density)
footprint PW0016A_M (SOP, 16-Leads, Body 5.1x4.5mm, Pitch 0.65mm, IPC Low Density)
footprint PW0016A_L (SOP, 16-Leads, Body 5.1x4.5mm, Pitch 0.65mm, IPC High Density)
pins: 1 5 (out), 2 1 (out), 3 0 (out), 4 2 (out), 5 6 (out), 6 7 (out), 7 3 (out), 8 VSS (power), 9 8 (out), 10 4 (out), 11 9 (out), 12 CARRY OUT (out), 13 CLK INH (in), 14 CLK (in), 15 RESET (in), 16 VDD (power)

## CD4017BPWR
designator U?
CMOS Decade Counter with 10 Decoded Outputs, PW0016A, LARGE T&R; Generic Part Number: CD4017B; Manufacturer: Texas Instruments; PartNumber: CD4017BPWR; VCC(Max)(V): 18; VCC(Min)(V): 3; Inputs: 1; ICC @ Nom Voltage(Max)(mA): 0.03; Bits(#): 10; F @ Nom Voltage(Max)(Mhz): 8; Rating: Military; Technology Family: CD4000; Schmitt Trigger: No; Output Drive (IOL/IOH)(Max)(mA): 1.5/-1.5; tpd @ Nom Voltage(Max)(ns): 270; DatasheetVersion: SCHS027C; PackageReference: PW0016A; Supplier 1: Mouser; Supplier Part Number 1: 595-CD4017BPWR; Supplier 2: Digi-Key; Supplier Part Number 2: 296-14252-2-ND; Supplier 3: Digi-Key; Supplier Part Number 3: 296-14252-1-ND; Supplier 4: Digi-Key; Supplier Part Number 4: 296-14252-6-ND; Output Type: CMOS; Function: Counter; Input Type: CMOS; Operating Temperature Range(C): -55 to 125; Type: Decade; Voltage(Nom)(V): 10; Code_JEDEC: MO-153; ComponentLink1Description: Manufacturer URL; ComponentLink1URL: http://www.ti.com/; ComponentLink2Description: Datasheet; ComponentLink2URL: http://www.ti.com/lit/ds/symlink/cd4017b.pdf; ComponentLink3Description: Package Specification; ComponentLink3URL: http://www.ti.com/lit/ml/mpds361/mpds361.pdf
footprint PW0016A_N (SOP, 16-Leads, Body 5.1x4.5mm, Pitch 0.65mm, IPC Medium Density)
footprint PW0016A_M (SOP, 16-Leads, Body 5.1x4.5mm, Pitch 0.65mm, IPC Low Density)
footprint PW0016A_L (SOP, 16-Leads, Body 5.1x4.5mm, Pitch 0.65mm, IPC High Density)
pins: 1 5 (out), 2 1 (out), 3 0 (out), 4 2 (out), 5 6 (out), 6 7 (out), 7 3 (out), 8 VSS (power), 9 8 (out), 10 4 (out), 11 9 (out), 12 CARRY OUT (out), 13 CLK INH (in), 14 CLK (in), 15 RESET (in), 16 VDD (power)

## CD4018BE
designator U?
CMOS Presettable Divide-By-N Counter, N0016A, TUBE; Generic Part Number: CD4018B; Manufacturer: Texas Instruments; PartNumber: CD4018BE; VCC(Max)(V): 18; VCC(Min)(V): 3; Inputs: 1; ICC @ Nom Voltage(Max)(mA): 0.03; Bits(#): 5; F @ Nom Voltage(Max)(Mhz): 8; Rating: Catalog; Technology Family: CD4000; Voltage(Nom)(V): 5,10,15; Schmitt Trigger: No; Output Drive (IOL/IOH)(Max)(mA): 1.5/-1.5; tpd @ Nom Voltage(Max)(ns): 180; DatasheetVersion: SCHS028C; PackageReference: N0016A; Supplier 1: Mouser; Supplier Part Number 1: 595-CD4018BE; Supplier 2: Digi-Key; Supplier Part Number 2: 296-14236-ND; Output Type: CMOS; Function: Counter; Input Type: CMOS; Operating Temperature Range(C): -55 to 125; Type: Decade; Code_JEDEC: MS-001; ComponentLink1Description: Manufacturer URL; ComponentLink1URL: http://www.ti.com/; ComponentLink2Description: Datasheet; ComponentLink2URL: http://www.ti.com/lit/ds/symlink/cd4018b.pdf; ComponentLink3Description: Package Specification; ComponentLink3URL: http://www.ti.com/lit/ml/mpdi002c/mpdi002c.pdf
footprint N0016A (DIP, 16-Leads, Body 19.7x6.6mm, Pitch 2.54mm)
pins: 1 DATA (in), 2 JAM 1 (in), 3 JAM 2 (in), 4 ~{Q2} (out), 5 ~{Q1} (out), 6 ~{Q3} (out), 7 JAM 3 (in), 8 VSS (power), 9 JAM 4 (in), 10 PRESET EN (in), 11 ~{Q4} (out), 12 JAM 5 (in), 13 ~{Q5} (out), 14 CLK (in), 15 RESET (in), 16 VDD (power)

## CD4018BF
designator U?
CMOS Presettable Divide-By-N Counter, J0016A, TUBE; Generic Part Number: CD4018B-MIL; Manufacturer: Texas Instruments; PartNumber: CD4018BF; VCC(Max)(V): 18; VCC(Min)(V): 3; Inputs: 1; ICC @ Nom Voltage(Max)(mA): 0.03; Bits(#): 5; F @ Nom Voltage(Max)(Mhz): 8; Rating: Military; Technology Family: CD4000; Voltage(Nom)(V): 10; Schmitt Trigger: No; Output Drive (IOL/IOH)(Max)(mA): 1.5/-1.5; tpd @ Nom Voltage(Max)(ns): 180; DatasheetVersion: SCHS028C; PackageReference: J0016A; Output Type: CMOS; Function: Counter; Input Type: CMOS; Operating Temperature Range(C): -55 to 125; Type: Decade; ComponentLink1Description: Manufacturer URL; ComponentLink1URL: http://www.ti.com/; ComponentLink2Description: Datasheet; ComponentLink2URL: http://www.ti.com/lit/ds/symlink/cd4018b-mil.pdf; ComponentLink3Description: Package Specification; ComponentLink3URL: http://www.ti.com/lit/ml/mcer002d/mcer002d.pdf
footprint J0016A (DIP, 16-Leads, Body 21.35x7.2mm, Pitch 2.54mm)
pins: 1 DATA (in), 2 JAM 1 (in), 3 JAM 2 (in), 4 ~{Q2} (out), 5 ~{Q1} (out), 6 ~{Q3} (out), 7 JAM 3 (in), 8 VSS (power), 9 JAM 4 (in), 10 PRESET EN (in), 11 ~{Q4} (out), 12 JAM 5 (in), 13 ~{Q5} (out), 14 CLK (in), 15 RESET (in), 16 VDD (power)

## CD4018BF3A
designator U?
CMOS Presettable Divide-By-N Counter, J0016A, TUBE; Generic Part Number: CD4018B-MIL; Manufacturer: Texas Instruments; PartNumber: CD4018BF3A; VCC(Max)(V): 18; VCC(Min)(V): 3; Inputs: 1; ICC @ Nom Voltage(Max)(mA): 0.03; Bits(#): 5; F @ Nom Voltage(Max)(Mhz): 8; Rating: Military; Technology Family: CD4000; Voltage(Nom)(V): 10; Schmitt Trigger: No; Output Drive (IOL/IOH)(Max)(mA): 1.5/-1.5; tpd @ Nom Voltage(Max)(ns): 180; DatasheetVersion: SCHS028C; PackageReference: J0016A; Output Type: CMOS; Function: Counter; Input Type: CMOS; Operating Temperature Range(C): -55 to 125; Type: Decade; ComponentLink1Description: Manufacturer URL; ComponentLink1URL: http://www.ti.com/; ComponentLink2Description: Datasheet; ComponentLink2URL: http://www.ti.com/lit/ds/symlink/cd4018b-mil.pdf; ComponentLink3Description: Package Specification; ComponentLink3URL: http://www.ti.com/lit/ml/mcer002d/mcer002d.pdf
footprint J0016A (DIP, 16-Leads, Body 21.35x7.2mm, Pitch 2.54mm)
pins: 1 DATA (in), 2 JAM 1 (in), 3 JAM 2 (in), 4 ~{Q2} (out), 5 ~{Q1} (out), 6 ~{Q3} (out), 7 JAM 3 (in), 8 VSS (power), 9 JAM 4 (in), 10 PRESET EN (in), 11 ~{Q4} (out), 12 JAM 5 (in), 13 ~{Q5} (out), 14 CLK (in), 15 RESET (in), 16 VDD (power)

## CD4018BM
designator U?
CMOS Presettable Divide-By-N Counter, D0016A, TUBE; Generic Part Number: CD4018B; Manufacturer: Texas Instruments; PartNumber: CD4018BM; VCC(Max)(V): 18; VCC(Min)(V): 3; Inputs: 1; ICC @ Nom Voltage(Max)(mA): 0.03; Bits(#): 5; F @ Nom Voltage(Max)(Mhz): 8; Rating: Catalog; Technology Family: CD4000; Voltage(Nom)(V): 5,10,15; Schmitt Trigger: No; Output Drive (IOL/IOH)(Max)(mA): 1.5/-1.5; tpd @ Nom Voltage(Max)(ns): 180; DatasheetVersion: SCHS028C; PackageReference: D0016A; Supplier 1: Mouser; Supplier Part Number 1: 595-CD4018BM; Supplier 2: Digi-Key; Supplier Part Number 2: 296-32870-5-ND; Output Type: CMOS; Function: Counter; Input Type: CMOS; Operating Temperature Range(C): -55 to 125; Type: Decade; Code_JEDEC: MS-012 variation AC; ComponentLink1Description: Manufacturer URL; ComponentLink1URL: http://www.ti.com/; ComponentLink2Description: Datasheet; ComponentLink2URL: http://www.ti.com/lit/ds/symlink/cd4018b.pdf; ComponentLink3Description: Package Specification; ComponentLink3URL: http://www.ti.com/lit/ml/mpds178g/mpds178g.pdf
footprint D0016A_N (SOIC, 16-Leads, Body 10x4mm, Pitch 1.27mm, IPC Medium Density)
footprint D0016A_M (SOIC, 16-Leads, Body 10x4mm, Pitch 1.27mm, IPC Low Density)
footprint D0016A_L (SOIC, 16-Leads, Body 10x4mm, Pitch 1.27mm, IPC High Density)
pins: 1 DATA (in), 2 JAM 1 (in), 3 JAM 2 (in), 4 ~{Q2} (out), 5 ~{Q1} (out), 6 ~{Q3} (out), 7 JAM 3 (in), 8 VSS (power), 9 JAM 4 (in), 10 PRESET EN (in), 11 ~{Q4} (out), 12 JAM 5 (in), 13 ~{Q5} (out), 14 CLK (in), 15 RESET (in), 16 VDD (power)

## CD4018BM96
designator U?
CMOS Presettable Divide-By-N Counter, D0016A, LARGE T&R; Generic Part Number: CD4018B; Manufacturer: Texas Instruments; PartNumber: CD4018BM96; VCC(Max)(V): 18; VCC(Min)(V): 3; Inputs: 1; ICC @ Nom Voltage(Max)(mA): 0.03; Bits(#): 5; F @ Nom Voltage(Max)(Mhz): 8; Rating: Catalog; Technology Family: CD4000; Voltage(Nom)(V): 5,10,15; Schmitt Trigger: No; Output Drive (IOL/IOH)(Max)(mA): 1.5/-1.5; tpd @ Nom Voltage(Max)(ns): 180; DatasheetVersion: SCHS028C; PackageReference: D0016A; Supplier 1: Mouser; Supplier Part Number 1: 595-CD4018BM96; Supplier 2: Digi-Key; Supplier Part Number 2: 296-41217-2-ND; Supplier 3: Digi-Key; Supplier Part Number 3: 296-41217-1-ND; Supplier 4: Digi-Key; Supplier Part Number 4: 296-41217-6-ND; Output Type: CMOS; Function: Counter; Input Type: CMOS; Operating Temperature Range(C): -55 to 125; Type: Decade; Code_JEDEC: MS-012 variation AC; ComponentLink1Description: Manufacturer URL; ComponentLink1URL: http://www.ti.com/; ComponentLink2Description: Datasheet; ComponentLink2URL: http://www.ti.com/lit/ds/symlink/cd4018b.pdf; ComponentLink3Description: Package Specification; ComponentLink3URL: http://www.ti.com/lit/ml/mpds178g/mpds178g.pdf
footprint D0016A_N (SOIC, 16-Leads, Body 10x4mm, Pitch 1.27mm, IPC Medium Density)
footprint D0016A_M (SOIC, 16-Leads, Body 10x4mm, Pitch 1.27mm, IPC Low Density)
footprint D0016A_L (SOIC, 16-Leads, Body 10x4mm, Pitch 1.27mm, IPC High Density)
pins: 1 DATA (in), 2 JAM 1 (in), 3 JAM 2 (in), 4 ~{Q2} (out), 5 ~{Q1} (out), 6 ~{Q3} (out), 7 JAM 3 (in), 8 VSS (power), 9 JAM 4 (in), 10 PRESET EN (in), 11 ~{Q4} (out), 12 JAM 5 (in), 13 ~{Q5} (out), 14 CLK (in), 15 RESET (in), 16 VDD (power)

## CD4018BMT
designator U?
CMOS Presettable Divide-By-N Counter, D0016A, SMALL T&R; Generic Part Number: CD4018B; Manufacturer: Texas Instruments; PartNumber: CD4018BMT; VCC(Max)(V): 18; VCC(Min)(V): 3; Inputs: 1; ICC @ Nom Voltage(Max)(mA): 0.03; Bits(#): 5; F @ Nom Voltage(Max)(Mhz): 8; Rating: Catalog; Technology Family: CD4000; Voltage(Nom)(V): 5,10,15; Schmitt Trigger: No; Output Drive (IOL/IOH)(Max)(mA): 1.5/-1.5; tpd @ Nom Voltage(Max)(ns): 180; DatasheetVersion: SCHS028C; PackageReference: D0016A; Supplier 1: Mouser; Supplier Part Number 1: 595-CD4018BMT; Supplier 2: Digi-Key; Supplier Part Number 2: 296-32050-2-ND; Supplier 3: Digi-Key; Supplier Part Number 3: 296-32050-1-ND; Supplier 4: Digi-Key; Supplier Part Number 4: 296-32050-6-ND; Output Type: CMOS; Function: Counter; Input Type: CMOS; Operating Temperature Range(C): -55 to 125; Type: Decade; Code_JEDEC: MS-012 variation AC; ComponentLink1Description: Manufacturer URL; ComponentLink1URL: http://www.ti.com/; ComponentLink2Description: Datasheet; ComponentLink2URL: http://www.ti.com/lit/ds/symlink/cd4018b.pdf; ComponentLink3Description: Package Specification; ComponentLink3URL: http://www.ti.com/lit/ml/mpds178g/mpds178g.pdf
footprint D0016A_N (SOIC, 16-Leads, Body 10x4mm, Pitch 1.27mm, IPC Medium Density)
footprint D0016A_M (SOIC, 16-Leads, Body 10x4mm, Pitch 1.27mm, IPC Low Density)
footprint D0016A_L (SOIC, 16-Leads, Body 10x4mm, Pitch 1.27mm, IPC High Density)
pins: 1 DATA (in), 2 JAM 1 (in), 3 JAM 2 (in), 4 ~{Q2} (out), 5 ~{Q1} (out), 6 ~{Q3} (out), 7 JAM 3 (in), 8 VSS (power), 9 JAM 4 (in), 10 PRESET EN (in), 11 ~{Q4} (out), 12 JAM 5 (in), 13 ~{Q5} (out), 14 CLK (in), 15 RESET (in), 16 VDD (power)